# EAGLE library part CW308T_CONNBOARD (library chipwhisperer)
CW308 Target Board. Contains the required 60-pin (3x 20 pins) header.
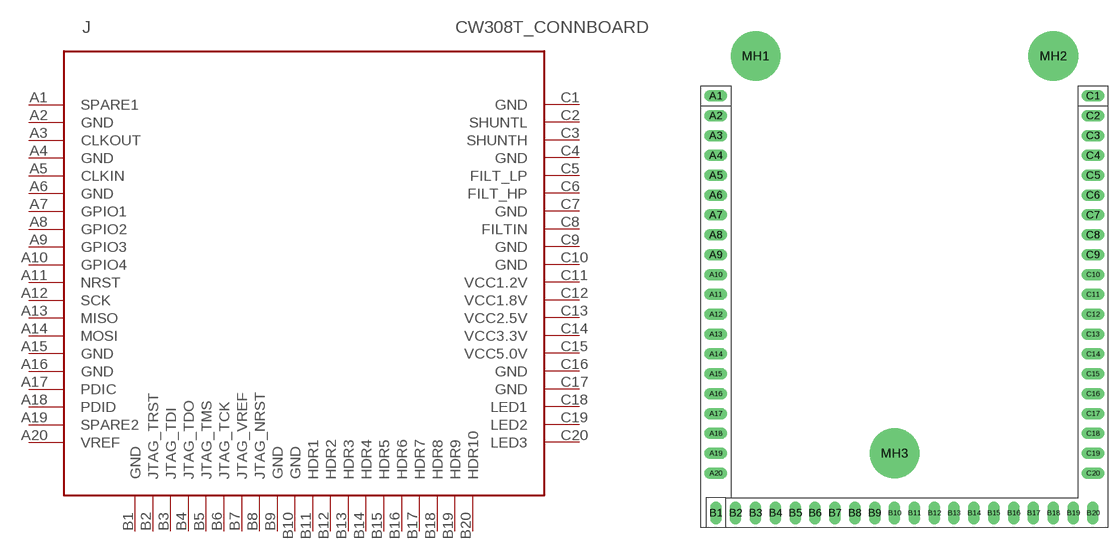
[diagram p0: symbol with the pads of CW308T_CONNBOARD; footprint CW308T_CONNBOARD]

Designator prefix J

## CW308T_CONNBOARD  [CW308T_CONNBOARD]
A1  SPARE1
A2  GND
A3  CLKOUT
A4  GND
A5  CLKIN
A6  GND
A7  GPIO1
A8  GPIO2
A9  GPIO3
A10  GPIO4
A11  NRST
A12  SCK
A13  MISO
A14  MOSI
A15  GND
A16  GND
A17  PDIC
A18  PDID
A19  SPARE2
A20  VREF
B1  GND
B2  JTAG_TRST
B3  JTAG_TDI
B4  JTAG_TDO
B5  JTAG_TMS
B6  JTAG_TCK
B7  JTAG_VREF
B8  JTAG_NRST
B9  GND
B10  GND
B11  HDR1
B12  HDR2
B13  HDR3
B14  HDR4
B15  HDR5
B16  HDR6
B17  HDR7
B18  HDR8
B19  HDR9
B20  HDR10
C1  GND
C2  SHUNTL
C3  SHUNTH
C4  GND
C5  FILT_LP
C6  FILT_HP
C7  GND
C8  FILTIN
C9  GND
C10  GND
C11  VCC1.2V
C12  VCC1.8V
C13  VCC2.5V
C14  VCC3.3V
C15  VCC5.0V
C16  GND
C17  GND
C18  LED1
C19  LED2
C20  LED3

## Footprint CW308T_CONNBOARD (pad centres in mm)
drill 0.991 long: A1 0,0; A2 0,-2.54; A3 0,-5.08; A4 0,-7.62; A5 0,-10.16; A6 0,-12.7; A7 0,-15.24; A8 0,-17.78; A9 0,-20.32; A10 0,-22.86; A11 0,-25.4; A12 0,-27.94; A13 0,-30.48; A14 0,-33.02; A15 0,-35.56; A16 0,-38.1; A17 0,-40.64; A18 0,-43.18; A19 0,-45.72; A20 0,-48.26; B1 0,-53.34; B2 2.54,-53.34; B3 5.08,-53.34; B4 7.62,-53.34; B5 10.16,-53.34; B6 12.7,-53.34; B7 15.24,-53.34; B8 17.78,-53.34; B9 20.32,-53.34; B10 22.86,-53.34; B11 25.4,-53.34; B12 27.94,-53.34; B13 30.48,-53.34; B14 33.02,-53.34; B15 35.56,-53.34; B16 38.1,-53.34; B17 40.64,-53.34; B18 43.18,-53.34; B19 45.72,-53.34; B20 48.26,-53.34; C1 48.26,0; C2 48.26,-2.54; C3 48.26,-5.08; C4 48.26,-7.62; C5 48.26,-10.16; C6 48.26,-12.7; C7 48.26,-15.24; C8 48.26,-17.78; C9 48.26,-20.32; C10 48.26,-22.86; C11 48.26,-25.4; C12 48.26,-27.94; C13 48.26,-30.48; C14 48.26,-33.02; C15 48.26,-35.56; C16 48.26,-38.1; C17 48.26,-40.64; C18 48.26,-43.18; C19 48.26,-45.72; C20 48.26,-48.26
drill 3.404 pad 6.35: MH1 5.08,5.08; MH2 43.18,5.08; MH3 22.86,-45.72